# Altium footprint library power.PcbLib: 29 footprints (part 1 of 2)
Each footprint in its own frame and in the unit in brackets; x right, y up, seen from the top. Pads: shape width x height; smd on the part's side, far side on the other; paste and mask are expansions set on the pad; w line width, h text height; cw(c..) or ccw(c..) is an arc to the next point about the centre after c.
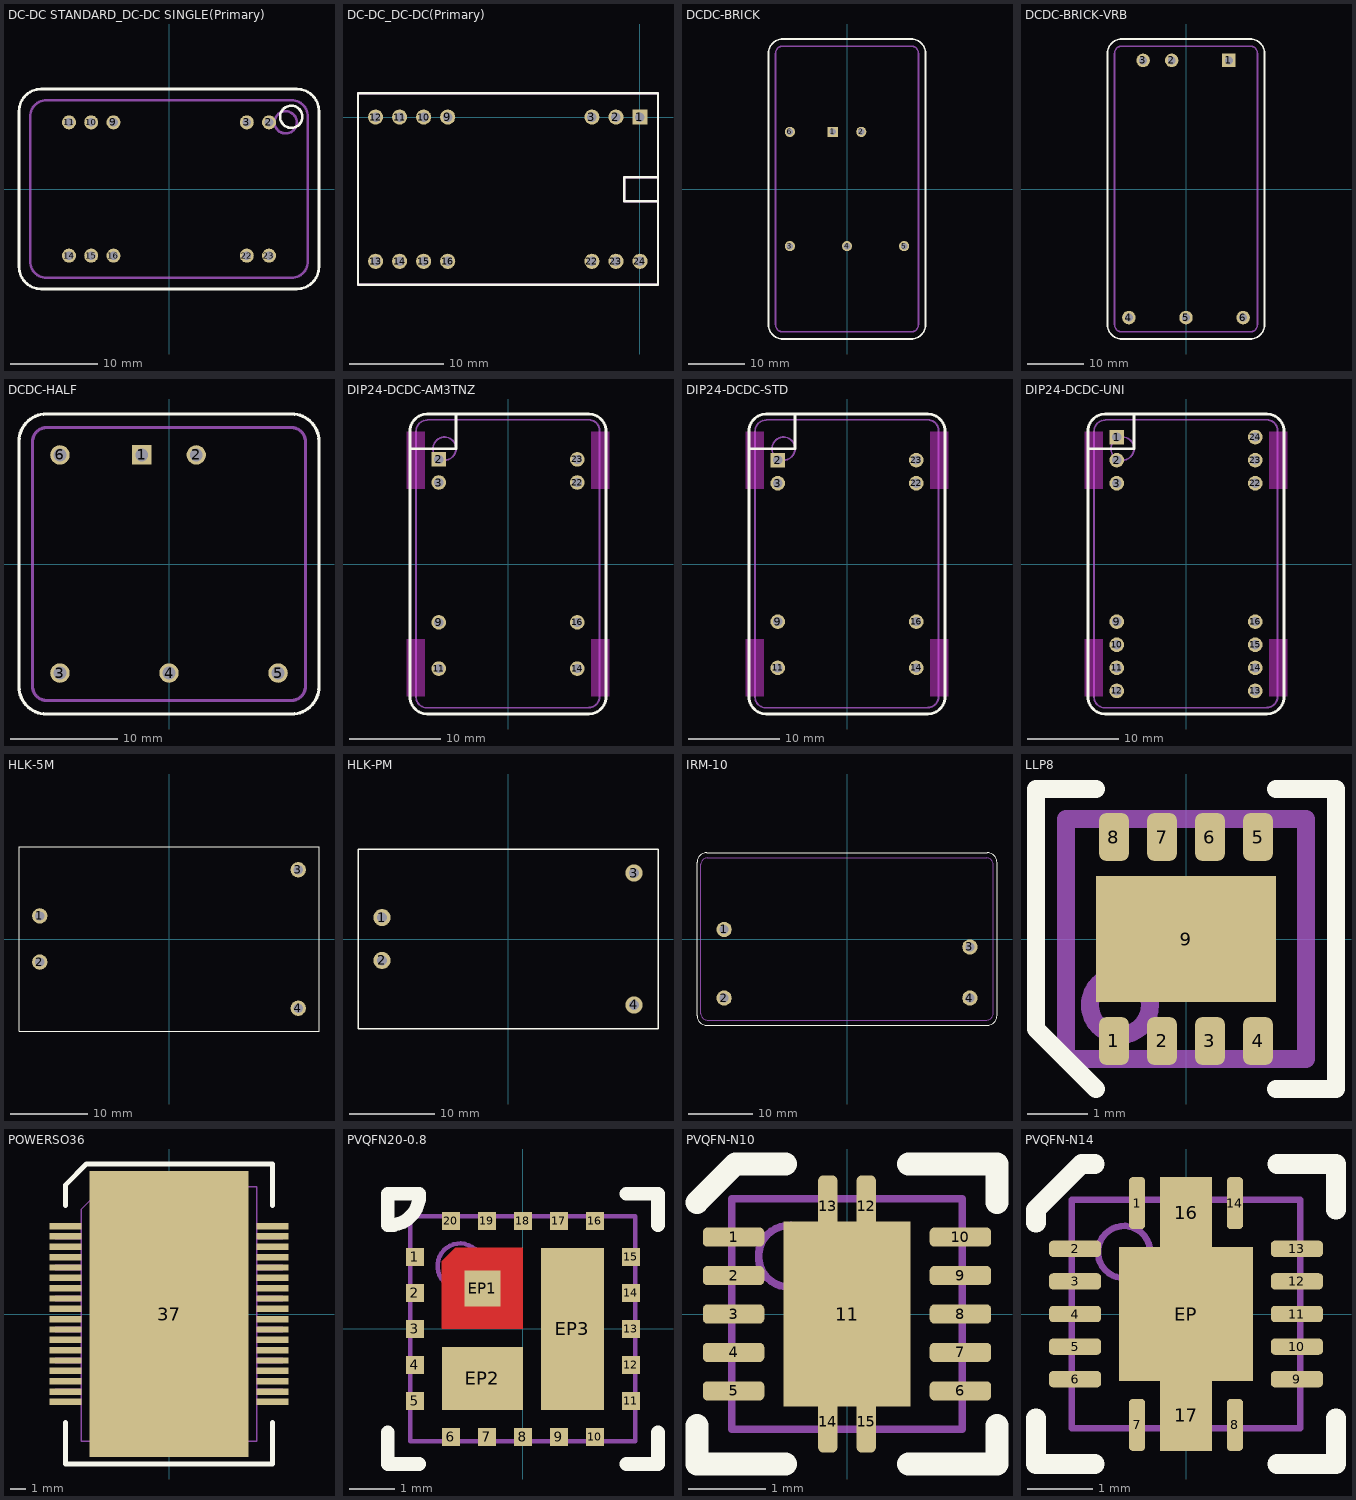
[diagram p0: the footprints below, top view; thin cyan lines are the x and y axes]

## DC-DC STANDARD_DC-DC SINGLE(Primary) [mm]
pads (10):
  round 1.6 hole 1: 2(11.43,7.62) 3(8.89,7.62) 9(-6.35,7.62) 10(-8.89,7.62) 11(-11.43,7.62) 14(-11.43,-7.62) 15(-8.89,-7.62) 16(-6.35,-7.62) 22(8.89,-7.62) 23(11.43,-7.62)
Top Overlay:
  circle w0.3: c13.97,8.255 r1.27
  lines w0.3: -17.145,-8.89 ccw(c-14.605,-8.89) -14.605,-11.43 14.605,-11.43 ccw(c14.605,-8.89) 17.145,-8.89 17.145,8.89 ccw(c14.605,8.89) 14.605,11.43 -14.605,11.43 ccw(c-14.605,8.89) -17.145,8.89 -17.145,-8.89
Mechanical 1:
  circle w0.3: c13.335,7.62 r1.27
  lines w0.3: -15.875,-8.255 ccw(c-13.97,-8.255) -13.97,-10.16 13.97,-10.16 ccw(c13.97,-8.255) 15.875,-8.255 15.875,8.255 ccw(c13.97,8.255) 13.97,10.16 -13.97,10.16 ccw(c-13.97,8.255) -15.875,8.255 -15.875,-8.255

## DC-DC_DC-DC(Primary) [mm]
pads (14):
  rect 1.6x1.6 hole 1: 1(0,0)
  round 1.6 hole 1: 2(-2.54,0) 3(-5.08,0) 9(-20.32,0) 10(-22.86,0) 11(-25.4,0) 12(-27.94,0) 13(-27.94,-15.24) 14(-25.4,-15.24) 15(-22.86,-15.24) 16(-20.32,-15.24) 22(-5.08,-15.24) 23(-2.54,-15.24) 24(0,-15.24)
Top Overlay:
  lines w0.254: 1.905,-8.89 -1.651,-8.89 -1.651,-6.35 1.905,-6.35 ; -29.8,-17.7 1.9,-17.7 1.9,2.5 -29.8,2.5 -29.8,-17.7
Mechanical 1:
  lines w0.254: 1.905,-8.89 -1.651,-8.89 -1.651,-6.35 1.905,-6.35 ; -29.8,-17.7 1.9,-17.7 1.9,2.5 -29.8,2.5 -29.8,-17.7

## DCDC-BRICK [mm]
pads (6):
  rect 1.8x1.8 hole 1.2: 1(-2.54,10.16)
  round 1.8 hole 1.2: 2(2.54,10.16) 3(-10.16,-10.16) 4(0,-10.16) 5(10.16,-10.16) 6(-10.16,10.16)
Top Overlay:
  lines w0.3: -13.97,-24.13 ccw(c-11.43,-24.13) -11.43,-26.67 11.43,-26.67 ccw(c11.43,-24.13) 13.97,-24.13 13.97,24.13 ccw(c11.43,24.13) 11.43,26.67 -11.43,26.67 ccw(c-11.43,24.13) -13.97,24.13 -13.97,-24.13
Mechanical 1:
  lines w0.3: -12.7,-24.13 ccw(c-11.43,-24.13) -11.43,-25.4 11.43,-25.4 ccw(c11.43,-24.13) 12.7,-24.13 12.7,24.13 ccw(c11.43,24.13) 11.43,25.4 -11.43,25.4 ccw(c-11.43,24.13) -12.7,24.13 -12.7,-24.13
3D body: height 10.8, standoff 0.5, extent -12.711,-25.411 12.711,25.405

## DCDC-BRICK-VRB [mm] "Mornsun"
height 11.8
pads (6):
  rect 2.4x2.4 hole 1.4: 1(7.62,22.86)
  round 2.4 hole 1.4: 2(-2.54,22.86) 3(-7.62,22.86) 4(-10.16,-22.86) 5(0,-22.86) 6(10.16,-22.86)
Top Overlay:
  lines w0.3: -13.97,-24.13 ccw(c-11.43,-24.13) -11.43,-26.67 11.43,-26.67 ccw(c11.43,-24.13) 13.97,-24.13 13.97,24.13 ccw(c11.43,24.13) 11.43,26.67 -11.43,26.67 ccw(c-11.43,24.13) -13.97,24.13 -13.97,-24.13
Mechanical 1:
  lines w0.3: -12.7,-24.13 ccw(c-11.43,-24.13) -11.43,-25.4 11.43,-25.4 ccw(c11.43,-24.13) 12.7,-24.13 12.7,24.13 ccw(c11.43,24.13) 11.43,25.4 -11.43,25.4 ccw(c-11.43,24.13) -12.7,24.13 -12.7,-24.13
3D body: height 10.8, standoff 0.5, extent -12.711,-25.411 12.711,25.405

## DCDC-HALF [mm]
pads (6):
  rect 1.8x1.8 hole 1.2: 1(-2.54,10.16)
  round 1.8 hole 1.2: 2(2.54,10.16) 3(-10.16,-10.16) 4(0,-10.16) 5(10.16,-10.16) 6(-10.16,10.16)
Top Overlay:
  lines w0.3: -13.97,-11.43 ccw(c-11.43,-11.43) -11.43,-13.97 11.43,-13.97 ccw(c11.43,-11.43) 13.97,-11.43 13.97,11.43 ccw(c11.43,11.43) 11.43,13.97 -11.43,13.97 ccw(c-11.43,11.43) -13.97,11.43 -13.97,-11.43
Mechanical 1:
  lines w0.3: -12.7,-11.43 ccw(c-11.43,-11.43) -11.43,-12.7 11.43,-12.7 ccw(c11.43,-11.43) 12.7,-11.43 12.7,11.43 ccw(c11.43,11.43) 11.43,12.7 -11.43,12.7 ccw(c-11.43,11.43) -12.7,11.43 -12.7,-11.43

## DIP24-DCDC-AM3TNZ [mm]
height 10.2
pads (8):
  rect 1.6x1.6 hole 1: 2(-7.62,11.51)
  round 1.6 hole 1: 3(-7.62,8.97) 9(-7.62,-6.43) 11(-7.62,-11.51) 14(7.62,-11.51) 16(7.62,-6.43) 22(7.62,8.97) 23(7.62,11.51)
Top Layer keep-out:
  region: -9.144,8.255 -9.144,14.605 -11.176,14.605 -11.176,8.255
  region: 11.176,8.255 11.176,14.605 9.144,14.605 9.144,8.255
  region: 11.176,-14.605 11.176,-8.255 9.144,-8.255 9.144,-14.605
  region: -9.144,-14.605 -9.144,-8.255 -11.176,-8.255 -11.176,-14.605
Top Overlay:
  lines w0.3: -10.795,12.7 -5.715,12.7 -5.715,16.51 ; -10.795,-14.605 ccw(c-8.89,-14.605) -8.89,-16.51 8.89,-16.51 ccw(c8.89,-14.605) 10.795,-14.605 10.795,14.605 ccw(c8.89,14.605) 8.89,16.51 -8.89,16.51 ccw(c-8.89,14.605) -10.795,14.605 -10.795,-14.605
Mechanical 1:
  circle w0.2: c-6.985,12.7 r1.27
  lines w0.2: -8.886,15.839 ccw(c-8.886,14.605) -10.12,14.605 -10.12,-14.645 ccw(c-8.935,-14.645) -8.935,-15.83 8.886,-15.83 ; -8.886,15.87 8.89,15.87 cw(c8.89,14.68) 10.08,14.68 10.08,-14.605 cw(c8.886,-14.605) 8.886,-15.799
3D body: height 10.2, standoff 0.5, extent -10.171,-15.886 10.171,15.886

## DIP24-DCDC-STD [mm]
height 10.2
pads (8):
  rect 1.6x1.6 hole 1: 2(-7.62,11.43)
  round 1.6 hole 1: 3(-7.62,8.89) 9(-7.62,-6.35) 11(-7.62,-11.43) 14(7.62,-11.43) 16(7.62,-6.35) 22(7.62,8.89) 23(7.62,11.43)
Top Layer keep-out:
  region: -9.144,8.255 -9.144,14.605 -11.176,14.605 -11.176,8.255
  region: 11.176,8.255 11.176,14.605 9.144,14.605 9.144,8.255
  region: 11.176,-14.605 11.176,-8.255 9.144,-8.255 9.144,-14.605
  region: -9.144,-14.605 -9.144,-8.255 -11.176,-8.255 -11.176,-14.605
Top Overlay:
  lines w0.3: -10.795,12.7 -5.715,12.7 -5.715,16.51 ; -10.795,-14.605 ccw(c-8.89,-14.605) -8.89,-16.51 8.89,-16.51 ccw(c8.89,-14.605) 10.795,-14.605 10.795,14.605 ccw(c8.89,14.605) 8.89,16.51 -8.89,16.51 ccw(c-8.89,14.605) -10.795,14.605 -10.795,-14.605
Mechanical 1:
  circle w0.2: c-6.985,12.7 r1.27
  lines w0.2: -8.886,15.839 ccw(c-8.886,14.605) -10.12,14.605 -10.12,-14.645 ccw(c-8.935,-14.645) -8.935,-15.83 8.886,-15.83 ; -8.886,15.87 8.89,15.87 cw(c8.89,14.68) 10.08,14.68 10.08,-14.605 cw(c8.886,-14.605) 8.886,-15.799
3D body: height 10.2, standoff 0.5, extent -10.171,-15.886 10.171,15.886

## DIP24-DCDC-UNI [mm]
height 10.2
pads (14):
  rect 1.6x1.6 hole 1: 1(-7.62,13.97)
  round 1.6 hole 1: 2(-7.62,11.43) 3(-7.62,8.89) 9(-7.62,-6.35) 10(-7.62,-8.89) 11(-7.62,-11.43) 12(-7.62,-13.97) 13(7.62,-13.97) 14(7.62,-11.43) 15(7.62,-8.89) 16(7.62,-6.35) 22(7.62,8.89) 23(7.62,11.43) 24(7.62,13.97)
Top Layer keep-out:
  region: -9.144,8.255 -9.144,14.605 -11.176,14.605 -11.176,8.255
  region: 11.176,8.255 11.176,14.605 9.144,14.605 9.144,8.255
  region: 11.176,-14.605 11.176,-8.255 9.144,-8.255 9.144,-14.605
  region: -9.144,-14.605 -9.144,-8.255 -11.176,-8.255 -11.176,-14.605
Top Overlay:
  lines w0.3: -10.795,12.7 -5.715,12.7 -5.715,16.51 ; -10.795,-14.605 ccw(c-8.89,-14.605) -8.89,-16.51 8.89,-16.51 ccw(c8.89,-14.605) 10.795,-14.605 10.795,14.605 ccw(c8.89,14.605) 8.89,16.51 -8.89,16.51 ccw(c-8.89,14.605) -10.795,14.605 -10.795,-14.605
Mechanical 1:
  circle w0.2: c-6.985,12.7 r1.27
  lines w0.2: -8.886,15.839 ccw(c-8.886,14.605) -10.12,14.605 -10.12,-14.645 ccw(c-8.935,-14.645) -8.935,-15.83 8.886,-15.83 ; -8.886,15.87 8.89,15.87 cw(c8.89,14.68) 10.08,14.68 10.08,-14.605 cw(c8.886,-14.605) 8.886,-15.799
3D body: height 10.2, standoff 0.5, extent -10.171,-15.886 10.171,15.886

## HLK-5M [mm]
height 18
pads (4):
  round 2 hole 1.2: 1(-16.8,3) 2(-16.8,-3) 3(16.8,9) 4(16.8,-9)
Top Overlay:
  lines w0.15: -19.5,-12 19.5,-12 19.5,12 -19.5,12 -19.5,-12
3D body: height 18, standoff 0, extent -19,-11.5 19,11.5
3D body: height 0, standoff -5, extent -17.297,-3.499 -16.3,-2.501
3D body: height 0, standoff -5, extent -17.298,2.501 -16.3,3.499
3D body: height 0, standoff -5, extent 16.303,8.501 17.3,9.499
3D body: height 0, standoff -5, extent 16.303,-9.499 17.3,-8.501

## HLK-PM [mm]
height 15
pads (4):
  round 2 hole 1.2: 1(-14.7,2.5) 2(-14.7,-2.5) 3(14.7,7.7) 4(14.7,-7.7)
Top Overlay:
  lines w0.15: -17.5,-10.5 -17.5,10.5 17.5,10.5 17.5,-10.5 -17.5,-10.5
3D body: height 0, standoff -5, extent 14.203,-8.199 15.2,-7.201
3D body: height 0, standoff -5, extent 14.203,7.201 15.2,8.199
3D body: height 0, standoff -5, extent -15.197,2.001 -14.2,2.999
3D body: height 0, standoff -5, extent -15.197,-2.999 -14.2,-2.001
3D body: height 15, standoff 0, extent -17,-10.1 17,10.1

## IRM-10 [mm]
height 21.5
pads (4):
  round 2.4 hole 1.4: 1(-19.25,1.5) 2(-19.25,-9.25) 3(19.25,-1.25) 4(19.25,-9.25)
Top Overlay:
  lines w0.15: -23.5,-12 ccw(c-22,-12) -22,-13.5 22,-13.5 ccw(c22,-12) 23.5,-12 23.5,12 ccw(c22,12) 22,13.5 -22,13.5 ccw(c-22,12) -23.5,12 -23.5,-12
Mechanical 1:
  lines w0.1: -22.9,-11.7 ccw(c-21.9,-11.7) -21.9,-12.7 21.9,-12.7 ccw(c21.9,-11.7) 22.9,-11.7 22.9,11.7 ccw(c21.9,11.7) 21.9,12.7 -21.9,12.7 ccw(c-21.9,11.7) -22.9,11.7 -22.9,-11.7
3D body: height 0, standoff -3.5, extent -19.748,1 -18.75,2
3D body: height 21.5, standoff 0.1, extent -22.9,-12.7 22.9,12.7
3D body: height 0, standoff -3.5, extent -19.748,-9.75 -18.75,-8.75
3D body: height 0, standoff -3.5, extent 18.752,-9.75 19.75,-8.75
3D body: height 0, standoff -3.5, extent 18.752,-1.75 19.75,-0.75

## LLP8 [mm]
pads (9):
  rrect50% 0.5x0.8 smd: 1(-1.2,-1.7) 2(-0.4,-1.7) 3(0.4,-1.7) 4(1.2,-1.7) 5(1.2,1.7) 6(0.4,1.7) 7(-0.4,1.7) 8(-1.2,1.7)
  rect 3x2.1 smd paste-0.45: 9(0,0)
Top Overlay:
  lines w0.3: -1.5,-2.5 -2.5,-1.5 -2.5,2.5 -1.5,2.5 ; 1.5,-2.5 2.5,-2.5 2.5,2.5 1.5,2.5
Mechanical 1:
  circle w0.3: c-1.1,-1.1 r0.5
  lines w0.3: -2,-2 2,-2 2,2 -2,2 -2,-2

## POWERSO36 [mm]
pads (37):
  rect 2x0.4 smd: 1(-6.5,5.525) 2(-6.5,4.875) 3(-6.5,4.225) 4(-6.5,3.575) 5(-6.5,2.925) 6(-6.5,2.275) 7(-6.5,1.625) 8(-6.5,0.975) 9(-6.5,0.325) 10(-6.5,-0.325) 11(-6.5,-0.975) 12(-6.5,-1.625) 13(-6.5,-2.275) 14(-6.5,-2.925) 15(-6.5,-3.575) 16(-6.5,-4.225) 17(-6.5,-4.875) 18(-6.5,-5.525) 19(6.5,-5.525) 20(6.5,-4.875) 21(6.5,-4.225) 22(6.5,-3.575) 23(6.5,-2.925) 24(6.5,-2.275) 25(6.5,-1.625) 26(6.5,-0.975) 27(6.5,-0.325) 28(6.5,0.325) 29(6.5,0.975) 30(6.5,1.625) 31(6.5,2.275) 32(6.5,2.925) 33(6.5,3.575) 34(6.5,4.225) 35(6.5,4.875) 36(6.5,5.525)
  rect 10x18 smd paste-6: 37(0,0)
Top Overlay:
  lines w0.3: -6.5,-6.825 -6.5,-9.425 6.5,-9.425 6.5,-6.825 ; -6.5,6.825 -6.5,8.125 -5.2,9.425 6.5,9.425 6.5,6.825
Top Paste:
  rectangle: -0.9,-0.9 0.9,0.9
  rectangle: -3.9,-0.9 -2.1,0.9
  rectangle: 2.1,-0.9 3.9,0.9
  rectangle: 2.1,2.1 3.9,3.9
  rectangle: -3.9,2.1 -2.1,3.9
  rectangle: -0.9,2.1 0.9,3.9
  rectangle: 2.1,5.1 3.9,6.9
  rectangle: -3.9,5.1 -2.1,6.9
  rectangle: -0.9,5.1 0.9,6.9
  rectangle: 2.1,-3.9 3.9,-2.1
  rectangle: -3.9,-3.9 -2.1,-2.1
  rectangle: -0.9,-3.9 0.9,-2.1
  rectangle: 2.1,-6.9 3.9,-5.1
  rectangle: -3.9,-6.9 -2.1,-5.1
  rectangle: -0.9,-6.9 0.9,-5.1
Mechanical 1:
  lines w0.1: -5.525,-5.655 -7.15,-5.655 -7.15,-5.395 -5.525,-5.395 ; -5.525,-5.005 -7.15,-5.005 -7.15,-4.745 -5.525,-4.745 ; -5.525,-4.355 -7.15,-4.355 -7.15,-4.095 -5.525,-4.095 ; -5.525,-3.705 -7.15,-3.705 -7.15,-3.445 -5.525,-3.445 ; -5.525,-3.055 -7.15,-3.055 -7.15,-2.795 -5.525,-2.795 ; -5.525,-2.405 -7.15,-2.405 -7.15,-2.145 -5.525,-2.145 ; -5.525,-1.755 -7.15,-1.755 -7.15,-1.495 -5.525,-1.495 ; -5.525,-1.105 -7.15,-1.105 -7.15,-0.845 -5.525,-0.845 ; -5.525,-0.455 -7.15,-0.455 -7.15,-0.195 -5.525,-0.195 ; -5.525,0.195 -7.15,0.195 -7.15,0.455 -5.525,0.455 ; -5.525,0.845 -7.15,0.845 -7.15,1.105 -5.525,1.105 ; -5.525,1.495 -7.15,1.495 -7.15,1.755 -5.525,1.755 ; -5.525,2.145 -7.15,2.145 -7.15,2.405 -5.525,2.405 ; -5.525,2.795 -7.15,2.795 -7.15,3.055 -5.525,3.055 ; -5.525,3.445 -7.15,3.445 -7.15,3.705 -5.525,3.705 ; -5.525,4.095 -7.15,4.095 -7.15,4.355 -5.525,4.355 ; -5.525,4.745 -7.15,4.745 -7.15,5.005 -5.525,5.005 ; -5.525,5.395 -7.15,5.395 -7.15,5.655 -5.525,5.655 ; -1.43,-7.995 -1.43,-7.15 cw(c-0.975,-7.15) -0.975,-6.695 0.975,-6.695 cw(c0.975,-7.15) 1.43,-7.15 1.43,-7.995 ; -1.43,7.995 -1.43,7.15 ccw(c-0.975,7.15) -0.975,6.695 0.975,6.695 ccw(c0.975,7.15) 1.43,7.15 1.43,7.995 ; 5.525,-5.655 7.15,-5.655 7.15,-5.395 5.525,-5.395 ; 5.525,-5.005 7.15,-5.005 7.15,-4.745 5.525,-4.745 ; 5.525,-4.355 7.15,-4.355 7.15,-4.095 5.525,-4.095 ; 5.525,-3.705 7.15,-3.705 7.15,-3.445 5.525,-3.445 ; 5.525,-3.055 7.15,-3.055 7.15,-2.795 5.525,-2.795 ; 5.525,-2.405 7.15,-2.405 7.15,-2.145 5.525,-2.145 ; 5.525,-1.755 7.15,-1.755 7.15,-1.495 5.525,-1.495 ; 5.525,-1.105 7.15,-1.105 7.15,-0.845 5.525,-0.845 ; 5.525,-0.455 7.15,-0.455 7.15,-0.195 5.525,-0.195 ; 5.525,0.195 7.15,0.195 7.15,0.455 5.525,0.455 ; 5.525,0.845 7.15,0.845 7.15,1.105 5.525,1.105 ; 5.525,1.495 7.15,1.495 7.15,1.755 5.525,1.755 ; 5.525,2.145 7.15,2.145 7.15,2.405 5.525,2.405 ; 5.525,2.795 7.15,2.795 7.15,3.055 5.525,3.055 ; 5.525,3.445 7.15,3.445 7.15,3.705 5.525,3.705 ; 5.525,4.095 7.15,4.095 7.15,4.355 5.525,4.355 ; 5.525,4.745 7.15,4.745 7.15,5.005 5.525,5.005 ; 5.525,5.395 7.15,5.395 7.15,5.655 5.525,5.655 ; -5.525,-7.995 5.525,-7.995 5.525,7.995 -4.095,7.995 -5.525,6.565 -5.525,-7.995

## PVQFN20-0.8 [mm] "Mornsun SCM1316"
height 0.75
pads (23):
  rect 0.4x0.4 smd: 1(-2.4,1.6) 2(-2.4,0.8) 3(-2.4,0) 4(-2.4,-0.8) 5(-2.4,-1.6) 6(-1.6,-2.4) 7(-0.8,-2.4) 8(0,-2.4) 9(0.8,-2.4) 10(1.6,-2.4) 11(2.4,-1.6) 12(2.4,-0.8) 13(2.4,0) 14(2.4,0.8) 15(2.4,1.6) 16(1.6,2.4) 17(0.8,2.4) 18(0,2.4) 19(-0.8,2.4) 20(-1.6,2.4)
  rect 0.8x0.8 smd: EP1(-0.9,0.9)
  rect 1.8x1.4 smd paste-0.4: EP2(-0.9,-1.1)
  rect 1.4x3.6 smd paste-0.4: EP3(1.1,0)
Top Layer:
  region: -1.5,1.8 -1.8,1.5 -1.8,0 0,0 0,1.8
Top Overlay:
  lines w0.3: -3,-2.3 -3,-3 -2.3,-3 ; -2.3,2.983 cw(c-2.983,2.983) -2.5,2.5 cw(c-2.983,2.983) -2.983,2.3 -3,2.3 -3,3 -2.3,3 ; 2.3,-3 3,-3 3,-2.3 ; 2.3,3 3,3 3,2.3
Mechanical 1:
  circle w0.1: c-1.4,1.4 r0.5
  lines w0.1: -2.5,-2.5 2.5,-2.5 2.5,2.5 -2.5,2.5 -2.5,-2.5
3D body: height 0.2, standoff 0, extent 2.2,-0.2 2.55,0.2
3D body: height 0.2, standoff 0, extent 2.2,0.6 2.55,1
3D body: height 0.2, standoff 0, extent 2.2,1.4 2.55,1.8
3D body: height 0.2, standoff 0, extent 2.2,-1 2.55,-0.6
3D body: height 0.2, standoff 0, extent 2.2,-1.8 2.55,-1.4
3D body: height 0.2, standoff 0, extent -0.2,-2.55 0.2,-2.2
3D body: height 0.2, standoff 0, extent 0.6,-2.55 1,-2.2
3D body: height 0.2, standoff 0, extent 1.4,-2.55 1.8,-2.2
3D body: height 0.2, standoff 0, extent -1,-2.55 -0.6,-2.2
3D body: height 0.2, standoff 0, extent -1.8,-2.55 -1.4,-2.2
3D body: height 0.2, standoff 0, extent -2.55,-0.2 -2.2,0.2
3D body: height 0.2, standoff 0, extent -2.55,-1 -2.2,-0.6
3D body: height 0.2, standoff 0, extent -2.55,-1.8 -2.2,-1.4
3D body: height 0.2, standoff 0, extent -2.55,0.6 -2.2,1
3D body: height 0.2, standoff 0, extent -2.55,1.4 -2.2,1.8
3D body: height 0.2, standoff 0, extent 1.4,2.2 1.8,2.55
3D body: height 0.2, standoff 0, extent 0.6,2.2 1,2.55
3D body: height 0.2, standoff 0, extent -1.8,2.2 -1.4,2.55
3D body: height 0.2, standoff 0, extent -1,2.2 -0.6,2.55
3D body: height 0.8, standoff 0.1, extent -2.5,-2.5 2.5,2.5
3D body: height 0.2, standoff 0, extent -0.2,2.2 0.2,2.55

## PVQFN-N10 [mm]
pads (15):
  rrect50% 0.8x0.25 smd: 1(-1.475,1) 2(-1.475,0.5) 3(-1.475,0) 4(-1.475,-0.5) 5(-1.475,-1) 6(1.475,-1) 7(1.475,-0.5) 8(1.475,0) 9(1.475,0.5) 10(1.475,1)
  rect 1.65x2.4 smd paste-0.5: 11(0,0)
  rrect50% 0.25x0.8 smd: 12(0.25,1.4) 13(-0.25,1.4) 14(-0.25,-1.4) 15(0.25,-1.4)
Top Overlay:
  lines w0.3: -1.95,-1.45 -1.95,-1.95 -0.8,-1.95 ; -1.95,1.45 -1.45,1.95 -0.8,1.95 ; 0.8,-1.95 1.95,-1.95 1.95,-1.45 ; 0.8,1.95 1.95,1.95 1.95,1.45
Mechanical 1:
  circle w0.1: c-0.75,0.75 r0.4
  lines w0.1: -1.5,-1.5 1.5,-1.5 1.5,1.5 -1.5,1.5 -1.5,-1.5
3D body: height 0.8, standoff 0, extent -1.5,-1.5 1.5,1.5
3D body: height 0.2, standoff 0, extent -1.55,0.85 -1.45,1.15
3D body: height 0.2, standoff 0, extent -1.55,0.35 -1.45,0.65
3D body: height 0.2, standoff 0, extent -1.55,-0.15 -1.45,0.15
3D body: height 0.2, standoff 0, extent -1.55,-0.65 -1.45,-0.35
3D body: height 0.2, standoff 0, extent -1.55,-1.15 -1.45,-0.85
3D body: height 0.2, standoff 0, extent 1.45,-1.15 1.55,-0.85
3D body: height 0.2, standoff 0, extent 1.45,-0.65 1.55,-0.35
3D body: height 0.2, standoff 0, extent 1.45,-0.15 1.55,0.15
3D body: height 0.2, standoff 0, extent 1.45,0.35 1.55,0.65
3D body: height 0.2, standoff 0, extent 1.45,0.85 1.55,1.15

## PVQFN-N14 [mm]
pads (17):
  rrect50% 0.25x0.8 smd: 1(-0.75,1.7) 7(-0.75,-1.7) 8(0.75,-1.7) 14(0.75,1.7)
  rrect50% 0.8x0.25 smd: 2(-1.7,1) 3(-1.7,0.5) 4(-1.7,0) 5(-1.7,-0.5) 6(-1.7,-1) 9(1.7,-1) 10(1.7,-0.5) 11(1.7,0) 12(1.7,0.5) 13(1.7,1)
  rect 0.8x1.1 smd paste-0.2: 16(0,1.55) 17(0,-1.55)
  rect 2.05x2.05 smd paste-0.5: EP(0,0)
Top Overlay:
  lines w0.3: -2.3,-1.6 -2.3,-2.3 -1.4,-2.3 ; -2.3,1.4 -2.3,1.6 -1.6,2.3 -1.4,2.3 ; 1.4,-2.3 2.3,-2.3 2.3,-1.6 ; 1.4,2.3 2.3,2.3 2.3,1.6
Mechanical 1:
  circle w0.1: c-0.95,0.95 r0.4
  lines w0.1: -1.75,-1.75 -1.75,1.75 1.75,1.75 1.75,-1.75 -1.75,-1.75
3D body: height 0.8, standoff 0, extent -1.778,-1.778 1.802,1.778